# Altium footprint library FAN3100TSX.PcbLib: 1 footprints
Each footprint in its own frame and in the unit in brackets; x right, y up, seen from the top. Pads: shape width x height; smd on the part's side, far side on the other; paste and mask are expansions set on the pad; w line width, h text height; cw(c..) or ccw(c..) is an arc to the next point about the centre after c.
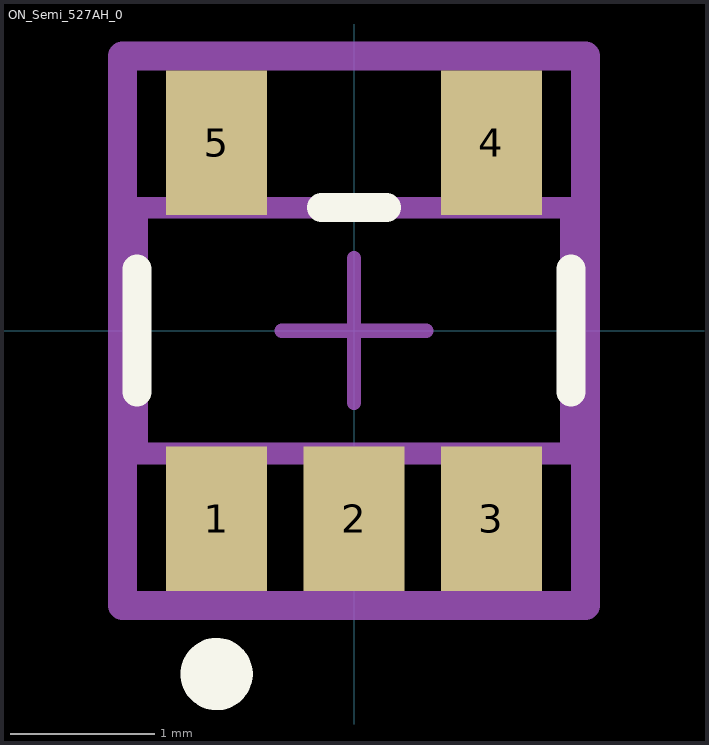
[diagram p0: the footprint, top view; thin cyan lines are the x and y axes]

## ON_Semi_527AH_0 [mm]
pads (5):
  rect 0.7x1 smd paste+0 mask+0: 1(-0.95,-1.3) 2(0,-1.3) 3(0.95,-1.3) 4(0.95,1.3) 5(-0.95,1.3)
Top Overlay:
  circle w0.25: c-0.95,-2.375 r0.125
  lines w0.2: -1.5,-0.425 -1.5,0.425 ; -0.225,0.85 0.225,0.85 ; 1.5,-0.425 1.5,0.425
Mechanical 10:
  lines w0.2: -1.6,-1.9 -1.6,1.9 1.6,1.9 1.6,-1.9 -1.6,-1.9
  text ".Designator" at 0,0 h1
Mechanical 12:
  lines w0.15: -1.5,-0.85 -1.5,0.85 1.5,0.85 1.5,-0.85 -1.5,-0.85
Mechanical 15:
  lines w0.1: -0.5,0 0.5,0 ; 0,-0.5 0,0.5
  lines w0.2: -1.6,-1.9 -1.6,1.9 1.6,1.9 1.6,-1.9 -1.6,-1.9
3D body "IC_ON_Semi_FAN3100TSX_eec.STEP": height 0.25, standoff 0, extent -1.6,-1.9 1.6,1.9
3D body "IC_ON_Semi_FAN3100TSX_eec.STEP": height 1.5, standoff 0, extent -1.45,-1.4 1.45,1.4